# Altium schematic symbol library SCH - FET - N-CH - INFINEON MOSFET N-CH SOT-23-3 GSD.SCHLIB: 1 symbol
Pins are listed as number, name and electrical type; pins without a type are passive.

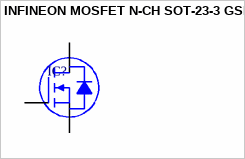
[diagram p0: symbol INFINEON MOSFET N-CH SOT-23-3 GSD]

## INFINEON MOSFET N-CH SOT-23-3 GSD
designator IC?
pins: 1 G, 2 S, 3 D